# Altium footprint library SON17P40_260X260X35L40X20T105N.PcbLib: 1 footprints
Each footprint in its own frame and in the unit in brackets; x right, y up, seen from the top. Pads: shape width x height; smd on the part's side, far side on the other; paste and mask are expansions set on the pad; w line width, h text height; cw(c..) or ccw(c..) is an arc to the next point about the centre after c.
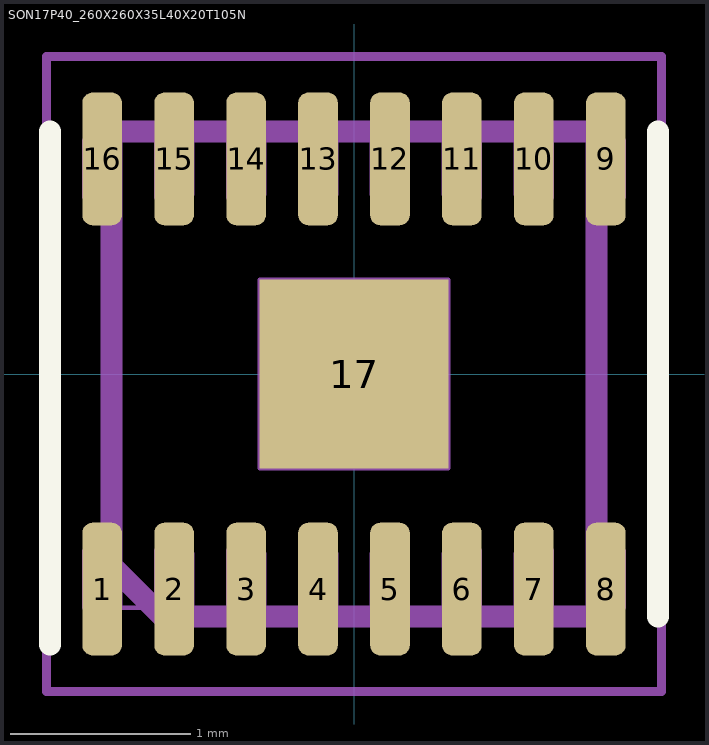
[diagram p0: the footprint, top view; thin cyan lines are the x and y axes]

## SON17P40_260X260X35L40X20T105N [mm] "Small Outline No-Lead (SON) with Thermal Tab, 0.40 mm pitch; 16 pin, 2.60 mm L X 2.60 mm W X 0.40 mm H Body"
height 0.4
pads (17):
  rrect50% 0.22x0.738 smd: 1(-1.4,-1.196) 2(-1,-1.196) 3(-0.6,-1.196) 4(-0.2,-1.196) 5(0.2,-1.196) 6(0.6,-1.196) 7(1,-1.196) 8(1.4,-1.196) 9(1.4,1.196) 10(1,1.196) 11(0.6,1.196) 12(0.2,1.196) 13(-0.2,1.196) 14(-0.6,1.196) 15(-1,1.196) 16(-1.4,1.196)
  rect 1.05x1.05 smd paste-0.154: 17(0,0)
Top Overlay:
  lines w0.12: -1.69,-1.505 -1.69,-1.35 -1.69,1.35 ; 1.69,-1.35 1.69,1.35
Mechanical 3:
  lines w0.12: -1.35,-1.063 -1.063,-1.35 1.35,-1.35 1.35,1.35 -1.35,1.35 -1.35,-1.063
Mechanical 5:
  lines w0.025: -1.3,-1.3 -1.3,-1 ccw(c-1.4,-1) -1.5,-1 -1.5,-1.3 -1.3,-1.3 ; -1.3,-1.3 -1.3,1.3 ; -1.3,-1.3 1.3,-1.3 ; -1.3,1.3 -1.3,1 cw(c-1.4,1) -1.5,1 -1.5,1.3 -1.3,1.3 ; -1.3,1.3 1.3,1.3 ; 1.3,-1.3 1.3,-1 cw(c1.4,-1) 1.5,-1 1.5,-1.3 1.3,-1.3 ; 1.3,-1.3 1.3,1.3 ; 1.3,1.3 1.3,1 ccw(c1.4,1) 1.5,1 1.5,1.3 1.3,1.3 ; -1.1,-1.3 -1.1,-1 cw(c-1,-1) -0.9,-1 -0.9,-1.3 -1.1,-1.3 ; -1.1,1 ccw(c-1,1) -0.9,1 -0.9,1.3 -1.1,1.3 -1.1,1 ; -0.7,-1.3 -0.7,-1 cw(c-0.6,-1) -0.5,-1 -0.5,-1.3 -0.7,-1.3 ; -0.7,1 ccw(c-0.6,1) -0.5,1 -0.5,1.3 -0.7,1.3 -0.7,1 ; -0.525,-0.525 0.525,-0.525 0.525,0.525 -0.525,0.525 -0.525,-0.525 ; -0.3,-1.3 -0.3,-1 cw(c-0.2,-1) -0.1,-1 -0.1,-1.3 -0.3,-1.3 ; -0.3,1 ccw(c-0.2,1) -0.1,1 -0.1,1.3 -0.3,1.3 -0.3,1 ; 0.1,-1.3 0.1,-1 cw(c0.2,-1) 0.3,-1 0.3,-1.3 0.1,-1.3 ; 0.1,1 ccw(c0.2,1) 0.3,1 0.3,1.3 0.1,1.3 0.1,1 ; 0.5,-1.3 0.5,-1 cw(c0.6,-1) 0.7,-1 0.7,-1.3 0.5,-1.3 ; 0.5,1 ccw(c0.6,1) 0.7,1 0.7,1.3 0.5,1.3 0.5,1 ; 0.9,-1.3 0.9,-1 cw(c1,-1) 1.1,-1 1.1,-1.3 0.9,-1.3 ; 0.9,1 ccw(c1,1) 1.1,1 1.1,1.3 0.9,1.3 0.9,1
Mechanical 7:
  circle w0.05: c0,0 r0.25
  lines w0.05: -0.35,0 0.35,0 ; 0,-0.35 0,0.35 ; -1.71,-1.765 -1.71,1.765 1.71,1.765 1.71,-1.765 -1.71,-1.765
Mechanical 9:
  text "'.Designator'" at -5.69,-0.398 h1.02
3D body "SON17P40_260X260X35L40X20T105.STEP": height 0.4, standoff 0, extent -1.5,-1.35 1.5,1.35
3D body: height 23.4, standoff -5, extent -1.71,-1.765 1.71,1.765